# EAGLE library part WSL (library Atmel - ISP_6   (AVR ISP MKII))
Name des Bauteiles: Wannenstecker 6 pol. Daten: 6 pol. goldene Kontakte ! Artikelnummer:#131231 Datenblatt:www.datasheet.com / www.reichelt.de
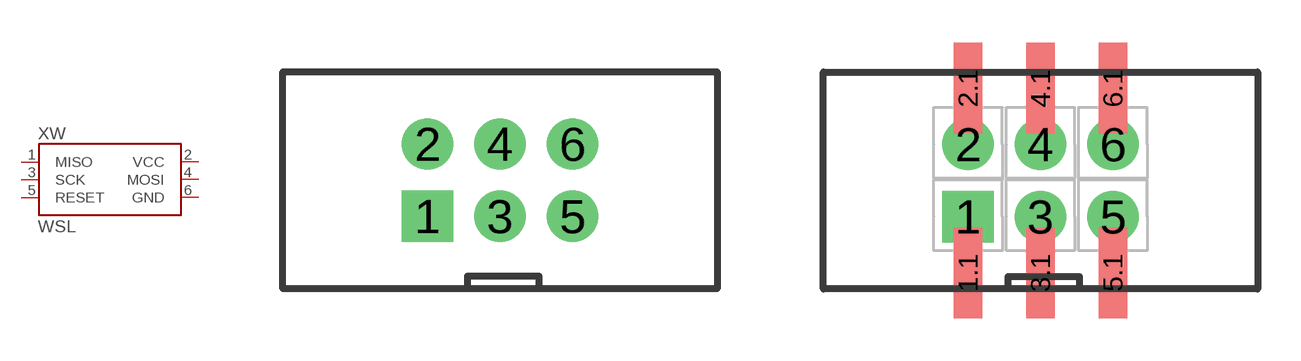
[diagram p0: symbol with the pads of WSL; footprints WSL, WSL_KOMBI]

Designator prefix XW

## WSL6  [WSL]
1  MISO
2  VCC  sup
3  SCK
4  MOSI
5  RESET
6  GND  sup

## WSL  [WSL_KOMBI]
1  MISO
1.1  MISO
2  VCC  sup
2.1  VCC  sup
3  SCK
3.1  SCK
4  MOSI
4.1  MOSI
5  RESET
5.1  RESET
6  GND  sup
6.1  GND  sup

## Footprint WSL (pad centres in mm)
drill 1.2 square: 1 -2.54,-1.27
drill 1.2: 2 -2.54,1.27; 3 0,-1.27; 4 0,1.27; 5 2.54,-1.27; 6 2.54,1.27

## Footprint WSL_KOMBI (pad centres in mm)
drill 1.2 square: 1 -2.54,-1.27
smd 1 x 3.2: 1.1 -2.54,-3.24; 2.1 -2.54,3.24; 3.1 0,-3.24; 4.1 0,3.24; 5.1 2.54,-3.24; 6.1 2.54,3.24
drill 1.2: 2 -2.54,1.27; 3 0,-1.27; 4 0,1.27; 5 2.54,-1.27; 6 2.54,1.27